# EAGLE library part T35F400 (library EfinixTrio)
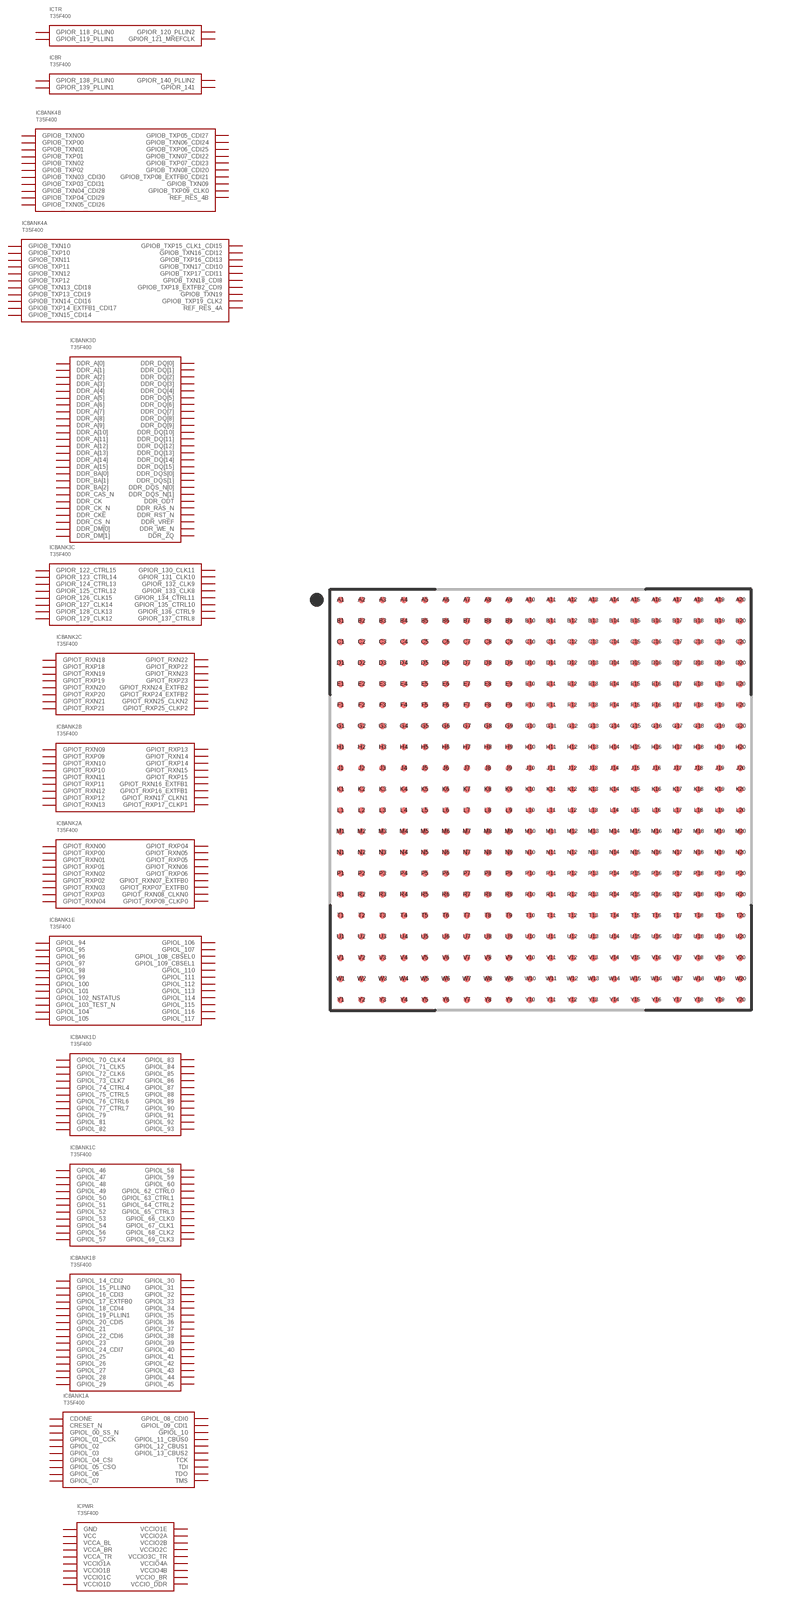
[diagram p9: symbol with the pads of FBGA400; footprint FBGA400]

Designator prefix IC; gates PWR=T35F400PWR BANK1A=T35F400BANK1A BANK1B=T35F400BANK1B BANK1C=T35F400BANK1C BANK1D=T35F400BANK1D BANK1E=T35F400BANK1E BANK2A=T35F400BANK2A BANK2B=T35F400BANK2B BANK2C=T35F400BANK2C BANK3C=T35F400BANK3C BANK3D=T35F400BANK3D BANK4A=T35F400BANK4A BANK4B=T35F400BANK4B BR=T35F400BR TR=T35F400TR

## T35F400  [FBGA400]
A1  PWR:GND  pwr
A2  BANK2B:GPIOT_RXN13
A3  BANK2B:GPIOT_RXP13
A4  BANK2A:GPIOT_RXN05
A5  BANK2A:GPIOT_RXP05
A6  BANK2A:GPIOT_RXN06
A7  BANK2A:GPIOT_RXP06
A8  BANK2A:GPIOT_RXP03
A9  BANK2A:GPIOT_RXP02
A10  BANK2A:GPIOT_RXN02
A11  BANK1E:GPIOL_108_CBSEL0
A12  BANK1E:GPIOL_109_CBSEL1
A13  BANK1E:GPIOL_106
A14  BANK1E:GPIOL_107
A15  BANK1E:GPIOL_105
A16  BANK1E:GPIOL_97
A17  BANK1D:GPIOL_90
A18  BANK1D:GPIOL_88
A19  BANK1D:GPIOL_86
A20  PWR:GND  pwr
B1  BANK2B:GPIOT_RXN16_EXTFB1
B2  BANK2B:GPIOT_RXP16_EXTFB1
B3  BANK2B:GPIOT_RXN15
B4  PWR:GND  pwr
B5  BANK2A:GPIOT_RXN08_CLKN0
B6  BANK2A:GPIOT_RXP08_CLKP0
B7  PWR:VCCIO2A  pwr
B8  BANK2A:GPIOT_RXN03
B9  BANK2A:GPIOT_RXP04
B10  PWR:VCCIO2A  pwr
B11  BANK2A:GPIOT_RXP00
B12  PWR:VCCIO1E  pwr
B13  BANK1E:GPIOL_112
B14  PWR:VCCIO1E  pwr
B15  BANK1E:GPIOL_96
B16  BANK1D:GPIOL_87
B17  PWR:VCCIO1D  pwr
B18  BANK1D:GPIOL_73_CLK7
B19  BANK1D:GPIOL_77_CTRL7
B20  BANK1D:GPIOL_71_CLK5
C1  BANK2C:GPIOT_RXN18
C2  PWR:VCCIO2B  pwr
C3  BANK2B:GPIOT_RXP15
C4  BANK2B:GPIOT_RXP14
C5  BANK2B:GPIOT_RXN14
C6  BANK2B:GPIOT_RXP10
C7  BANK2B:GPIOT_RXN10
C8  PWR:VCCIO2B  pwr
C9  BANK2A:GPIOT_RXN04
C10  BANK2A:GPIOT_RXP01
C11  BANK2A:GPIOT_RXN00
C12  BANK1E:GPIOL_111
C13  BANK1E:GPIOL_110
C14  BANK1E:GPIOL_102_NSTATUS
C15  BANK1E:GPIOL_94
C16  BANK1D:GPIOL_93
C17  BANK1D:GPIOL_84
C18  BANK1D:GPIOL_76_CTRL6
C19  PWR:VCCIO1D  pwr
C20  BANK1D:GPIOL_74_CTRL4
D1  BANK2C:GPIOT_RXP18
D2  BANK2C:GPIOT_RXN21
D3  BANK2B:GPIOT_RXN17_CLKN1
D4  BANK2B:GPIOT_RXP17_CLKP1
D5  BANK2B:GPIOT_RXN11
D6  BANK2B:GPIOT_RXP11
D7  BANK2B:GPIOT_RXN09
D8  BANK2B:GPIOT_RXP09
D9  BANK2B:GPIOT_RXP12
D10  BANK2A:GPIOT_RXN01
D11  PWR:GND  pwr
D12  BANK1E:GPIOL_113
D13  BANK1E:GPIOL_114
D14  BANK1E:GPIOL_100
D15  BANK1E:GPIOL_95
D16  BANK1D:GPIOL_92
D17  BANK1D:GPIOL_79
D18  BANK1D:GPIOL_72_CLK6
D19  BANK1C:GPIOL_63_CTRL1
D20  BANK1C:GPIOL_66_CLK0
E1  BANK2C:GPIOT_RXP23
E2  BANK2C:GPIOT_RXP21
E3  BANK2C:GPIOT_RXN20
E4  BANK2C:GPIOT_RXP20
E5  PWR:VCCIO2C  pwr
E6  BANK2C:GPIOT_RXP19
E7  BANK2C:GPIOT_RXN19
E8  PWR:GND  pwr
E9  BANK2B:GPIOT_RXN12
E10  BANK2A:GPIOT_RXP07_EXTFB0
E11  BANK2A:GPIOT_RXN07_EXTFB0
E12  BANK1E:GPIOL_116
E13  PWR:VCCIO1E  pwr
E14  BANK1E:GPIOL_104
E15  BANK1E:GPIOL_99
E16  PWR:VCCIO1D  pwr
E17  BANK1D:GPIOL_75_CTRL5
E18  BANK1C:GPIOL_68_CLK2
E19  PWR:VCCIO1C  pwr
E20  BANK1C:GPIOL_67_CLK1
F1  BANK2C:GPIOT_RXN23
F2  PWR:VCCIO2C  pwr
F3  BANK2C:GPIOT_RXN22
F4  BANK2C:GPIOT_RXP24_EXTFB2
F5  BANK2C:GPIOT_RXN24_EXTFB2
F6  TR:GPIOR_121_MREFCLK
F7  TR:GPIOR_118_PLLIN0
F8  PWR:VCCA_TR  pwr
F9  PWR:VCCIO2C  pwr
F10  PWR:VCCIO2B  pwr
F11  PWR:VCCIO2A  pwr
F12  BANK1E:GPIOL_115
F13  BANK1E:GPIOL_117
F14  BANK1E:GPIOL_103_TEST_N
F15  BANK1E:GPIOL_98
F16  BANK1D:GPIOL_85
F17  BANK1D:GPIOL_82
F18  BANK1C:GPIOL_69_CLK3
F19  BANK1C:GPIOL_64_CTRL2
F20  BANK1C:GPIOL_58
G1  BANK2C:GPIOT_RXN25_CLKN2
G2  BANK2C:GPIOT_RXP25_CLKP2
G3  BANK2C:GPIOT_RXP22
G4  BANK3C:GPIOR_127_CLK14
G5  BANK3C:GPIOR_123_CTRL14
G6  TR:GPIOR_119_PLLIN1
G7  TR:GPIOR_120_PLLIN2
G8  PWR:GND  pwr
G9  PWR:GND  pwr
G10  PWR:GND  pwr
G11  PWR:GND  pwr
G12  PWR:GND  pwr
G13  PWR:GND  pwr
G14  BANK1E:GPIOL_101
G15  BANK1D:GPIOL_91
G16  BANK1D:GPIOL_89
G17  BANK1D:GPIOL_70_CLK4
G18  BANK1C:GPIOL_65_CTRL3
G19  PWR:GND  pwr
G20  BANK1C:GPIOL_56
H1  BANK3C:GPIOR_130_CLK11
H2  BANK3C:GPIOR_131_CLK10
H3  BANK3C:GPIOR_124_CTRL13
H4  BANK3C:GPIOR_125_CTRL12
H5  PWR:VCCIO3C_TR  pwr
H6  BANK3C:GPIOR_122_CTRL15
H7  BANK3C:GPIOR_126_CLK15
H8  PWR:VCC  pwr
H9  PWR:VCC  pwr
H10  PWR:VCC  pwr
H11  PWR:VCC  pwr
H12  PWR:VCC  pwr
H13  PWR:VCC  pwr
H14  BANK1D:GPIOL_83
H15  BANK1D:GPIOL_81
H16  PWR:VCCIO1C  pwr
H17  BANK1C:GPIOL_60
H18  BANK1C:GPIOL_62_CTRL0
H19  BANK1C:GPIOL_54
H20  BANK1C:GPIOL_53
J1  BANK3C:GPIOR_134_CTRL11
J2  PWR:GND  pwr
J3  BANK3C:GPIOR_135_CTRL10
J4  BANK3C:GPIOR_132_CLK9
J5  BANK3C:GPIOR_133_CLK8
J6  BANK3C:GPIOR_129_CLK12
J7  PWR:VCCIO3C_TR  pwr
J8  PWR:GND  pwr
J9  PWR:GND  pwr
J10  PWR:GND  pwr
J11  PWR:GND  pwr
J12  PWR:GND  pwr
J13  PWR:GND  pwr
J14  BANK1C:GPIOL_59
J15  BANK1C:GPIOL_57
J16  BANK1C:GPIOL_51
J17  BANK1C:GPIOL_52
J18  BANK1C:GPIOL_47
J19  PWR:VCCIO1C  pwr
J20  BANK1C:GPIOL_50
K1  BANK3D:DDR_BA[2]
K2  BANK3D:DDR_BA[1]
K3  BANK3D:DDR_BA[0]
K4  BANK3D:DDR_WE_N
K5  BANK3C:GPIOR_128_CLK13
K6  BANK3C:GPIOR_136_CTRL9
K7  BANK3C:GPIOR_137_CTRL8
K8  PWR:VCC  pwr
K9  PWR:VCC  pwr
K10  PWR:VCC  pwr
K11  PWR:VCC  pwr
K12  PWR:VCC  pwr
K13  PWR:VCC  pwr
K14  BANK1C:GPIOL_49
K15  BANK1B:GPIOL_45
K16  BANK1B:GPIOL_44
K17  BANK1B:GPIOL_43
K18  BANK1B:GPIOL_42
K19  BANK1C:GPIOL_46
K20  BANK1C:GPIOL_48
L1  BANK3D:DDR_DQ[14]
L2  BANK3D:DDR_DQ[13]
L3  BANK3D:DDR_DQ[12]
L4  BANK3D:DDR_RST_N
L5  PWR:GND  pwr
L6  BANK3D:DDR_ODT
L7  PWR:VCCIO_DDR  pwr
L8  PWR:GND  pwr
L9  PWR:GND  pwr
L10  PWR:GND  pwr
L11  PWR:GND  pwr
L12  PWR:GND  pwr
L13  PWR:GND  pwr
L14  BANK1B:GPIOL_41
L15  BANK1B:GPIOL_37
L16  PWR:VCCIO1B  pwr
L17  BANK1B:GPIOL_36
L18  BANK1B:GPIOL_40
L19  PWR:VCCIO1B  pwr
L20  BANK1B:GPIOL_39
M1  BANK3D:DDR_DQ[15]
M2  PWR:GND  pwr
M3  BANK3D:DDR_DQS_N[1]
M4  BANK3D:DDR_RAS_N
M5  BANK3D:DDR_A[15]
M6  BANK3D:DDR_A[13]
M7  PWR:GND  pwr
M8  PWR:VCC  pwr
M9  PWR:VCC  pwr
M10  PWR:VCC  pwr
M11  PWR:VCC  pwr
M12  PWR:VCC  pwr
M13  PWR:VCC  pwr
M14  BANK1B:GPIOL_21
M15  BANK1B:GPIOL_31
M16  BANK1B:GPIOL_34
M17  BANK1B:GPIOL_32
M18  BANK1B:GPIOL_33
M19  BANK1B:GPIOL_38
M20  BANK1B:GPIOL_35
N1  BANK3D:DDR_DM[1]
N2  BANK3D:DDR_DQ[11]
N3  BANK3D:DDR_DQS[1]
N4  BANK3D:DDR_A[14]
N5  BANK3D:DDR_A[11]
N6  BANK3D:DDR_CKE
N7  PWR:VCCIO_DDR  pwr
N8  PWR:GND  pwr
N9  PWR:GND  pwr
N10  PWR:GND  pwr
N11  PWR:GND  pwr
N12  PWR:GND  pwr
N13  PWR:GND  pwr
N14  BANK1B:GPIOL_17_EXTFB0
N15  BANK1B:GPIOL_20_CDI5
N16  BANK1B:GPIOL_27
N17  BANK1B:GPIOL_30
N18  BANK1B:GPIOL_28
N19  PWR:VCCIO1B  pwr
N20  BANK1B:GPIOL_29
P1  BANK3D:DDR_DQ[8]
P2  BANK3D:DDR_DQ[9]
P3  BANK3D:DDR_DQ[10]
P4  BANK3D:DDR_A[12]
P5  PWR:VCCIO_DDR  pwr
P6  BANK3D:DDR_CAS_N
P7  PWR:GND  pwr
P8  PWR:VCC  pwr
P9  PWR:VCC  pwr
P10  PWR:VCC  pwr
P11  PWR:VCC  pwr
P12  PWR:VCC  pwr
P13  PWR:VCC  pwr
P14  BANK1A:GPIOL_10
P15  BANK1B:GPIOL_14_CDI2
P16  BANK1B:GPIOL_19_PLLIN1
P17  PWR:GND  pwr
P18  BANK1B:GPIOL_22_CDI6
P19  BANK1B:GPIOL_26
P20  BANK1B:GPIOL_25
R1  BANK3D:DDR_A[8]
R2  PWR:VCCIO_DDR  pwr
R3  BANK3D:DDR_CK
R4  BANK3D:DDR_CK_N
R5  BANK3D:DDR_A[10]
R6  BANK3D:DDR_CS_N
R7  PWR:VCCIO_DDR  pwr
R8  PWR:VCCA_BR  pwr
R9  PWR:VCCIO_BR  pwr
R10  BANK4A:REF_RES_4A
R11  PWR:GND  pwr
R12  BANK4B:REF_RES_4B
R13  PWR:VCCA_BL  pwr
R14  BANK1A:GPIOL_03
R15  PWR:VCCIO1A  pwr
R16  BANK1B:GPIOL_15_PLLIN0
R17  BANK1B:GPIOL_16_CDI3
R18  BANK1B:GPIOL_18_CDI4
R19  PWR:GND  pwr
R20  BANK1B:GPIOL_23
T1  BANK3D:DDR_A[7]
T2  BANK3D:DDR_A[9]
T3  BANK3D:DDR_A[4]
T4  BANK3D:DDR_A[6]
T5  BANK3D:DDR_A[5]
T6  BANK3D:DDR_A[3]
T7  BR:GPIOR_141
T8  BR:GPIOR_138_PLLIN0
T9  BR:GPIOR_139_PLLIN1
T10  BANK4A:GPIOB_TXN10
T11  BANK4A:GPIOB_TXP10
T12  BANK4B:GPIOB_TXN05_CDI26
T13  BANK4B:GPIOB_TXP05_CDI27
T14  PWR:VCCIO4B  pwr
T15  BANK1A:GPIOL_02
T16  BANK1A:GPIOL_04_CSI
T17  BANK1A:GPIOL_05_CSO
T18  BANK1A:GPIOL_12_CBUS1
T19  BANK1A:CDONE
T20  BANK1B:GPIOL_24_CDI7
U1  BANK3D:DDR_DQS_N[0]
U2  BANK3D:DDR_DQ[3]
U3  BANK3D:DDR_DQ[0]
U4  BANK3D:DDR_A[0]
U5  PWR:GND  pwr
U6  BANK4A:GPIOB_TXN17_CDI10
U7  BANK4A:GPIOB_TXP17_CDI11
U8  PWR:GND  pwr
U9  BR:GPIOR_140_PLLIN2
U10  BANK4A:GPIOB_TXN15_CDI14
U11  PWR:VCCIO4A  pwr
U12  BANK4B:GPIOB_TXN06_CDI24
U13  BANK4B:GPIOB_TXP07_CDI23
U14  BANK4B:GPIOB_TXP02
U15  BANK4B:GPIOB_TXN00
U16  PWR:GND  pwr
U17  BANK1A:GPIOL_06
U18  BANK1A:GPIOL_11_CBUS0
U19  BANK1A:CRESET_N
U20  BANK1A:TMS
V1  BANK3D:DDR_DQS[0]
V2  PWR:GND  pwr
V3  BANK3D:DDR_DQ[2]
V4  BANK3D:DDR_VREF
V5  BANK3D:DDR_A[2]
V6  BANK4A:GPIOB_TXP18_EXTFB2_CDI9
V7  BANK4A:GPIOB_TXN18_CDI8
V8  BANK4A:GPIOB_TXN19
V9  BANK4A:GPIOB_TXP19_CLK2
V10  BANK4A:GPIOB_TXP15_CLK1_CDI15
V11  BANK4A:GPIOB_TXN11
V12  BANK4B:GPIOB_TXP06_CDI25
V13  BANK4B:GPIOB_TXN07_CDI22
V14  BANK4B:GPIOB_TXN02
V15  BANK4B:GPIOB_TXP00
V16  BANK4B:GPIOB_TXN03_CDI30
V17  BANK1A:GPIOL_07
V18  BANK1A:GPIOL_13_CBUS2
V19  PWR:VCCIO1A  pwr
V20  BANK1A:TDO
W1  BANK3D:DDR_DM[0]
W2  BANK3D:DDR_DQ[4]
W3  BANK3D:DDR_DQ[1]
W4  PWR:VCCIO_DDR  pwr
W5  BANK3D:DDR_A[1]
W6  BANK4A:GPIOB_TXN14_CDI16
W7  PWR:VCCIO4A  pwr
W8  BANK4A:GPIOB_TXN16_CDI12
W9  BANK4A:GPIOB_TXP16_CDI13
W10  PWR:VCCIO4A  pwr
W11  BANK4A:GPIOB_TXP11
W12  PWR:VCCIO4B  pwr
W13  BANK4B:GPIOB_TXN08_CDI20
W14  BANK4B:GPIOB_TXN04_CDI28
W15  PWR:VCCIO4B  pwr
W16  BANK4B:GPIOB_TXP03_CDI31
W17  PWR:GND  pwr
W18  BANK1A:GPIOL_00_SS_N
W19  BANK1A:GPIOL_01_CCK
W20  BANK1A:TCK
Y1  PWR:GND  pwr
Y2  BANK3D:DDR_DQ[7]
Y3  BANK3D:DDR_DQ[5]
Y4  BANK3D:DDR_DQ[6]
Y5  BANK3D:DDR_ZQ
Y6  BANK4A:GPIOB_TXP14_EXTFB1_CDI17
Y7  BANK4A:GPIOB_TXP13_CDI19
Y8  BANK4A:GPIOB_TXN13_CDI18
Y9  BANK4A:GPIOB_TXN12
Y10  BANK4A:GPIOB_TXP12
Y11  BANK4B:GPIOB_TXP09_CLK0
Y12  BANK4B:GPIOB_TXN09
Y13  BANK4B:GPIOB_TXP08_EXTFB0_CDI21
Y14  BANK4B:GPIOB_TXP04_CDI29
Y15  BANK4B:GPIOB_TXN01
Y16  BANK4B:GPIOB_TXP01
Y17  BANK1A:GPIOL_08_CDI0
Y18  BANK1A:GPIOL_09_CDI1
Y19  BANK1A:TDI
Y20  PWR:GND  pwr

## Footprint FBGA400 (pad centres in mm)
400-BGA, collapsing, 0.80 mm pitch, 16.00 X 16.00 X 1.10 mm body 400-pin collapsing BGA package with 0.80 mm col pitch and 0.80 mm row pitch with body size 16.00 X 16.00 X 1.10 mm
smd 0.25 x 0.25: A1 -7.6,7.6; A2 -6.8,7.6; A3 -6,7.6; A4 -5.2,7.6; A5 -4.4,7.6; A6 -3.6,7.6; A7 -2.8,7.6; A8 -2,7.6; A9 -1.2,7.6; A10 -0.4,7.6; A11 0.4,7.6; A12 1.2,7.6; A13 2,7.6; A14 2.8,7.6; A15 3.6,7.6; A16 4.4,7.6; A17 5.2,7.6; A18 6,7.6; A19 6.8,7.6; A20 7.6,7.6; B1 -7.6,6.8; B2 -6.8,6.8; B3 -6,6.8; B4 -5.2,6.8; B5 -4.4,6.8; B6 -3.6,6.8; B7 -2.8,6.8; B8 -2,6.8; B9 -1.2,6.8; B10 -0.4,6.8; B11 0.4,6.8; B12 1.2,6.8; B13 2,6.8; B14 2.8,6.8; B15 3.6,6.8; B16 4.4,6.8; B17 5.2,6.8; B18 6,6.8; B19 6.8,6.8; B20 7.6,6.8; C1 -7.6,6; C2 -6.8,6; C3 -6,6; C4 -5.2,6; C5 -4.4,6; C6 -3.6,6; C7 -2.8,6; C8 -2,6; C9 -1.2,6; C10 -0.4,6; C11 0.4,6; C12 1.2,6; C13 2,6; C14 2.8,6; C15 3.6,6; C16 4.4,6; C17 5.2,6; C18 6,6; C19 6.8,6; C20 7.6,6; D1 -7.6,5.2; D2 -6.8,5.2; D3 -6,5.2; D4 -5.2,5.2; D5 -4.4,5.2; D6 -3.6,5.2; D7 -2.8,5.2; D8 -2,5.2; D9 -1.2,5.2; D10 -0.4,5.2; D11 0.4,5.2; D12 1.2,5.2; D13 2,5.2; D14 2.8,5.2; D15 3.6,5.2; D16 4.4,5.2; D17 5.2,5.2; D18 6,5.2; D19 6.8,5.2; D20 7.6,5.2; E1 -7.6,4.4; E2 -6.8,4.4; E3 -6,4.4; E4 -5.2,4.4; E5 -4.4,4.4; E6 -3.6,4.4; E7 -2.8,4.4; E8 -2,4.4; E9 -1.2,4.4; E10 -0.4,4.4; E11 0.4,4.4; E12 1.2,4.4; E13 2,4.4; E14 2.8,4.4; E15 3.6,4.4; E16 4.4,4.4; E17 5.2,4.4; E18 6,4.4; E19 6.8,4.4; E20 7.6,4.4; F1 -7.6,3.6; F2 -6.8,3.6; F3 -6,3.6; F4 -5.2,3.6; F5 -4.4,3.6; F6 -3.6,3.6; F7 -2.8,3.6; F8 -2,3.6; F9 -1.2,3.6; F10 -0.4,3.6; F11 0.4,3.6; F12 1.2,3.6; F13 2,3.6; F14 2.8,3.6; F15 3.6,3.6; F16 4.4,3.6; F17 5.2,3.6; F18 6,3.6; F19 6.8,3.6; F20 7.6,3.6; G1 -7.6,2.8; G2 -6.8,2.8; G3 -6,2.8; G4 -5.2,2.8; G5 -4.4,2.8; G6 -3.6,2.8; G7 -2.8,2.8; G8 -2,2.8; G9 -1.2,2.8; G10 -0.4,2.8; G11 0.4,2.8; G12 1.2,2.8; G13 2,2.8; G14 2.8,2.8; G15 3.6,2.8; G16 4.4,2.8; G17 5.2,2.8; G18 6,2.8; G19 6.8,2.8; G20 7.6,2.8; H1 -7.6,2; H2 -6.8,2; H3 -6,2; H4 -5.2,2; H5 -4.4,2; H6 -3.6,2; H7 -2.8,2; H8 -2,2; H9 -1.2,2; H10 -0.4,2; H11 0.4,2; H12 1.2,2; H13 2,2; H14 2.8,2; H15 3.6,2; H16 4.4,2; H17 5.2,2; H18 6,2; H19 6.8,2; H20 7.6,2; J1 -7.6,1.2; J2 -6.8,1.2; J3 -6,1.2; J4 -5.2,1.2; J5 -4.4,1.2; J6 -3.6,1.2; J7 -2.8,1.2; J8 -2,1.2; J9 -1.2,1.2; J10 -0.4,1.2; J11 0.4,1.2; J12 1.2,1.2; J13 2,1.2; J14 2.8,1.2; J15 3.6,1.2; J16 4.4,1.2; J17 5.2,1.2; J18 6,1.2; J19 6.8,1.2; J20 7.6,1.2; K1 -7.6,0.4; K2 -6.8,0.4; K3 -6,0.4; K4 -5.2,0.4; K5 -4.4,0.4; K6 -3.6,0.4; K7 -2.8,0.4; K8 -2,0.4; K9 -1.2,0.4; K10 -0.4,0.4; K11 0.4,0.4; K12 1.2,0.4; K13 2,0.4; K14 2.8,0.4; K15 3.6,0.4; K16 4.4,0.4; K17 5.2,0.4; K18 6,0.4; K19 6.8,0.4; K20 7.6,0.4; L1 -7.6,-0.4; L2 -6.8,-0.4; L3 -6,-0.4; L4 -5.2,-0.4; L5 -4.4,-0.4; L6 -3.6,-0.4; L7 -2.8,-0.4; L8 -2,-0.4; L9 -1.2,-0.4; L10 -0.4,-0.4; L11 0.4,-0.4; L12 1.2,-0.4; L13 2,-0.4; L14 2.8,-0.4; L15 3.6,-0.4; L16 4.4,-0.4; L17 5.2,-0.4; L18 6,-0.4; L19 6.8,-0.4; L20 7.6,-0.4; M1 -7.6,-1.2; M2 -6.8,-1.2; M3 -6,-1.2; M4 -5.2,-1.2; M5 -4.4,-1.2; M6 -3.6,-1.2; M7 -2.8,-1.2; M8 -2,-1.2; M9 -1.2,-1.2; M10 -0.4,-1.2; M11 0.4,-1.2; M12 1.2,-1.2; M13 2,-1.2; M14 2.8,-1.2; M15 3.6,-1.2; M16 4.4,-1.2; M17 5.2,-1.2; M18 6,-1.2; M19 6.8,-1.2; M20 7.6,-1.2; N1 -7.6,-2; N2 -6.8,-2; N3 -6,-2; N4 -5.2,-2; N5 -4.4,-2; N6 -3.6,-2; N7 -2.8,-2; N8 -2,-2; N9 -1.2,-2; N10 -0.4,-2; N11 0.4,-2; N12 1.2,-2; N13 2,-2; N14 2.8,-2; N15 3.6,-2; N16 4.4,-2; N17 5.2,-2; N18 6,-2; N19 6.8,-2; N20 7.6,-2; P1 -7.6,-2.8; P2 -6.8,-2.8; P3 -6,-2.8; P4 -5.2,-2.8; P5 -4.4,-2.8; P6 -3.6,-2.8; P7 -2.8,-2.8; P8 -2,-2.8; P9 -1.2,-2.8; P10 -0.4,-2.8; P11 0.4,-2.8; P12 1.2,-2.8; P13 2,-2.8; P14 2.8,-2.8; P15 3.6,-2.8; P16 4.4,-2.8; P17 5.2,-2.8; P18 6,-2.8; P19 6.8,-2.8; P20 7.6,-2.8; R1 -7.6,-3.6; R2 -6.8,-3.6; R3 -6,-3.6; R4 -5.2,-3.6; R5 -4.4,-3.6; R6 -3.6,-3.6; R7 -2.8,-3.6; R8 -2,-3.6; R9 -1.2,-3.6; R10 -0.4,-3.6; R11 0.4,-3.6; R12 1.2,-3.6; R13 2,-3.6; R14 2.8,-3.6; R15 3.6,-3.6; R16 4.4,-3.6; R17 5.2,-3.6; R18 6,-3.6; R19 6.8,-3.6; R20 7.6,-3.6; T1 -7.6,-4.4; T2 -6.8,-4.4; T3 -6,-4.4; T4 -5.2,-4.4; T5 -4.4,-4.4; T6 -3.6,-4.4; T7 -2.8,-4.4; T8 -2,-4.4; T9 -1.2,-4.4; T10 -0.4,-4.4; T11 0.4,-4.4; T12 1.2,-4.4; T13 2,-4.4; T14 2.8,-4.4; T15 3.6,-4.4; T16 4.4,-4.4; T17 5.2,-4.4; T18 6,-4.4; T19 6.8,-4.4; T20 7.6,-4.4; U1 -7.6,-5.2; U2 -6.8,-5.2; U3 -6,-5.2; U4 -5.2,-5.2; U5 -4.4,-5.2; U6 -3.6,-5.2; U7 -2.8,-5.2; U8 -2,-5.2; U9 -1.2,-5.2; U10 -0.4,-5.2; U11 0.4,-5.2; U12 1.2,-5.2; U13 2,-5.2; U14 2.8,-5.2; U15 3.6,-5.2; U16 4.4,-5.2; U17 5.2,-5.2; U18 6,-5.2; U19 6.8,-5.2; U20 7.6,-5.2; V1 -7.6,-6; V2 -6.8,-6; V3 -6,-6; V4 -5.2,-6; V5 -4.4,-6; V6 -3.6,-6; V7 -2.8,-6; V8 -2,-6; V9 -1.2,-6; V10 -0.4,-6; V11 0.4,-6; V12 1.2,-6; V13 2,-6; V14 2.8,-6; V15 3.6,-6; V16 4.4,-6; V17 5.2,-6; V18 6,-6; V19 6.8,-6; V20 7.6,-6; W1 -7.6,-6.8; W2 -6.8,-6.8; W3 -6,-6.8; W4 -5.2,-6.8; W5 -4.4,-6.8; W6 -3.6,-6.8; W7 -2.8,-6.8; W8 -2,-6.8; W9 -1.2,-6.8; W10 -0.4,-6.8; W11 0.4,-6.8; W12 1.2,-6.8; W13 2,-6.8; W14 2.8,-6.8; W15 3.6,-6.8; W16 4.4,-6.8; W17 5.2,-6.8; W18 6,-6.8; W19 6.8,-6.8; W20 7.6,-6.8; Y1 -7.6,-7.6; Y2 -6.8,-7.6; Y3 -6,-7.6; Y4 -5.2,-7.6; Y5 -4.4,-7.6; Y6 -3.6,-7.6; Y7 -2.8,-7.6; Y8 -2,-7.6; Y9 -1.2,-7.6; Y10 -0.4,-7.6; Y11 0.4,-7.6; Y12 1.2,-7.6; Y13 2,-7.6; Y14 2.8,-7.6; Y15 3.6,-7.6; Y16 4.4,-7.6; Y17 5.2,-7.6; Y18 6,-7.6; Y19 6.8,-7.6; Y20 7.6,-7.6